# EAGLE library part 55763-3070 (library con-molex_MOD)
2.00mm Pitch MicroClasp™ Wire-to-Board Header, Surface Mount, Dual Row, Vertical, 30 Circuits
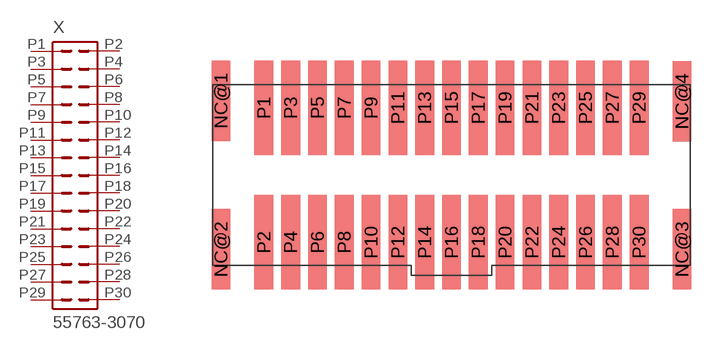
[diagram p230: symbol with the pads of 55763-3070; footprint 55763-3070]

Designator prefix X

## 55763-3070  [55763-3070]
P1  1  pas
P2  2  pas
P3  3  pas
P4  4  pas
P5  5  pas
P6  6  pas
P7  7  pas
P8  8  pas
P9  9  pas
P10  10  pas
P11  11  pas
P12  12  pas
P13  13  pas
P14  14  pas
P15  15  pas
P16  16  pas
P17  17  pas
P18  18  pas
P19  19  pas
P20  20  pas
P21  21  pas
P22  22  pas
P23  23  pas
P24  24  pas
P25  25  pas
P26  26  pas
P27  27  pas
P28  28  pas
P29  29  pas
P30  30  pas

## Footprint 55763-3070 (pad centres in mm)
smd 1.4 x 6: NC@1 -17.2,5.55; NC@2 -17.2,-5.55; NC@3 17.2,-5.55; NC@4 17.2,5.5
smd 1.4 x 7.05: P1 -14,5.025; P2 -14,-5.025; P3 -12,5.025; P4 -12,-5.025; P5 -10,5.025; P6 -10,-5.025; P7 -8,5.025; P8 -8,-5.025; P9 -6,5.025; P10 -6,-5.025; P11 -4,5.025; P12 -4,-5.025; P13 -2,5.025; P14 -2,-5.025; P15 0,5.025; P16 0,-5.025; P17 2,5.025; P18 2,-5.025; P19 4,5.025; P20 4,-5.025; P21 6,5.025; P22 6,-5.025; P23 8,5.025; P24 8,-5.025; P25 10,5.025; P26 10,-5.025; P27 12,5.025; P28 12,-5.025; P29 14,5.025; P30 14,-5.025